# Altium footprint library CYBLE21401501.PcbLib: 1 footprints
Each footprint in its own frame and in the unit in brackets; x right, y up, seen from the top. Pads: shape width x height; smd on the part's side, far side on the other; paste and mask are expansions set on the pad; w line width, h text height; cw(c..) or ccw(c..) is an arc to the next point about the centre after c.
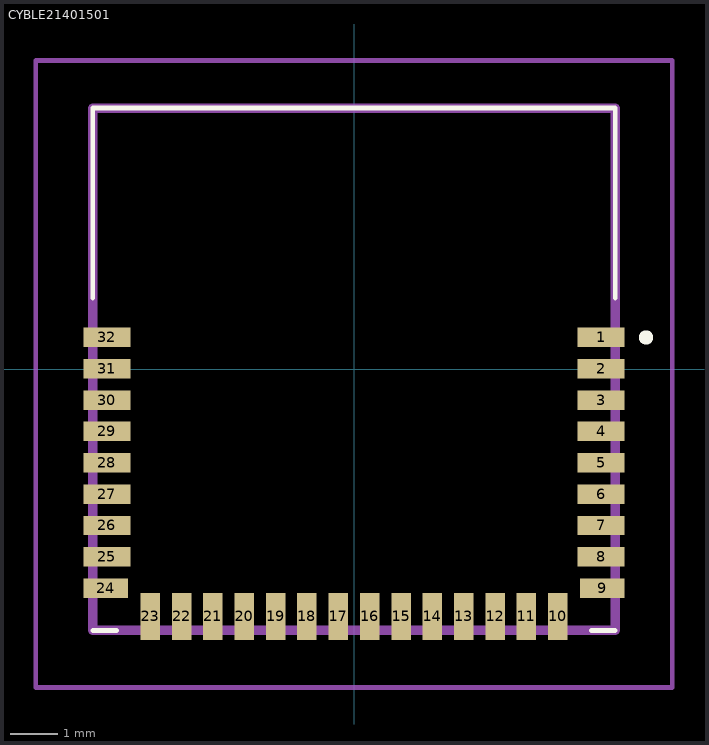
[diagram p0: the footprint, top view; thin cyan lines are the x and y axes]

## CYBLE21401501 [mm]
pads (32):
  rect 0.99x0.41 smd: 1(5.205,0.67) 2(5.205,0.01) 3(5.205,-0.65) 4(5.205,-1.31) 5(5.205,-1.97) 6(5.205,-2.63) 7(5.205,-3.29) 8(5.205,-3.95) 25(-5.205,-3.95) 26(-5.205,-3.29) 27(-5.205,-2.63) 28(-5.205,-1.97) 29(-5.205,-1.31) 30(-5.205,-0.65) 31(-5.205,0.01) 32(-5.205,0.67)
  rect 0.94x0.41 smd: 9(5.23,-4.61) 24(-5.23,-4.61)
  rect 0.41x0.99 smd: 10(4.29,-5.205) 11(3.63,-5.205) 12(2.97,-5.205) 13(2.31,-5.205) 14(1.65,-5.205) 15(0.99,-5.205) 16(0.33,-5.205) 17(-0.33,-5.205) 18(-0.99,-5.205) 19(-1.65,-5.205) 20(-2.31,-5.205) 21(-2.97,-5.205) 22(-3.63,-5.205) 23(-4.29,-5.205)
Top Overlay:
  lines w0.1: -5.5,-5.5 -5,-5.5 ; -5.5,-5.5 -5.5,-5.5 ; -5.5,-5.5 -5,-5.5 ; -5.5,1.5 -5.5,1.5 ; -5.5,1.5 -5.5,5.5 ; -5.5,1.5 -5.5,5.5 ; -5.5,5.5 -5.5,5.5 ; -5.5,5.5 5.5,5.5 ; -5.5,5.5 5.5,5.5 ; -5.5,5.5 -5.5,5.5 ; -5,-5.5 -5,-5.5 ; 5,-5.5 5.5,-5.5 ; 5,-5.5 5.5,-5.5 ; 5,-5.5 5,-5.5 ; 5.5,-5.5 5.5,-5.5 ; 5.5,1.5 5.5,5.5 ; 5.5,1.5 5.5,1.5 ; 5.5,1.5 5.5,5.5 ; 5.5,5.5 5.5,5.5 ; 5.5,5.5 5.5,5.5
  lines w0.2: 6.1,0.67 6.1,0.67 ; 6.1,0.67 ccw(c6.15,0.67) 6.2,0.67 ; 6.1,0.67 cw(c6.15,0.67) 6.2,0.67 ; 6.1,0.67 6.1,0.67 ; 6.1,0.67 ccw(c6.15,0.67) 6.2,0.67 ; 6.2,0.67 6.2,0.67
Mechanical 15:
  lines w0.2: -5.5,-5.5 5.5,-5.5 5.5,5.5 -5.5,5.5 -5.5,-5.5
Mechanical 20:
  lines w0.1: -6.7,-6.7 6.7,-6.7 6.7,6.5 -6.7,6.5 -6.7,-6.7